# Altium footprint library FP-SMD-Passive.PcbLib: 73 footprints (part 3 of 5)
Each footprint in its own frame and in the unit in brackets; x right, y up, seen from the top. Pads: shape width x height; smd on the part's side, far side on the other; paste and mask are expansions set on the pad; w line width, h text height; cw(c..) or ccw(c..) is an arc to the next point about the centre after c.
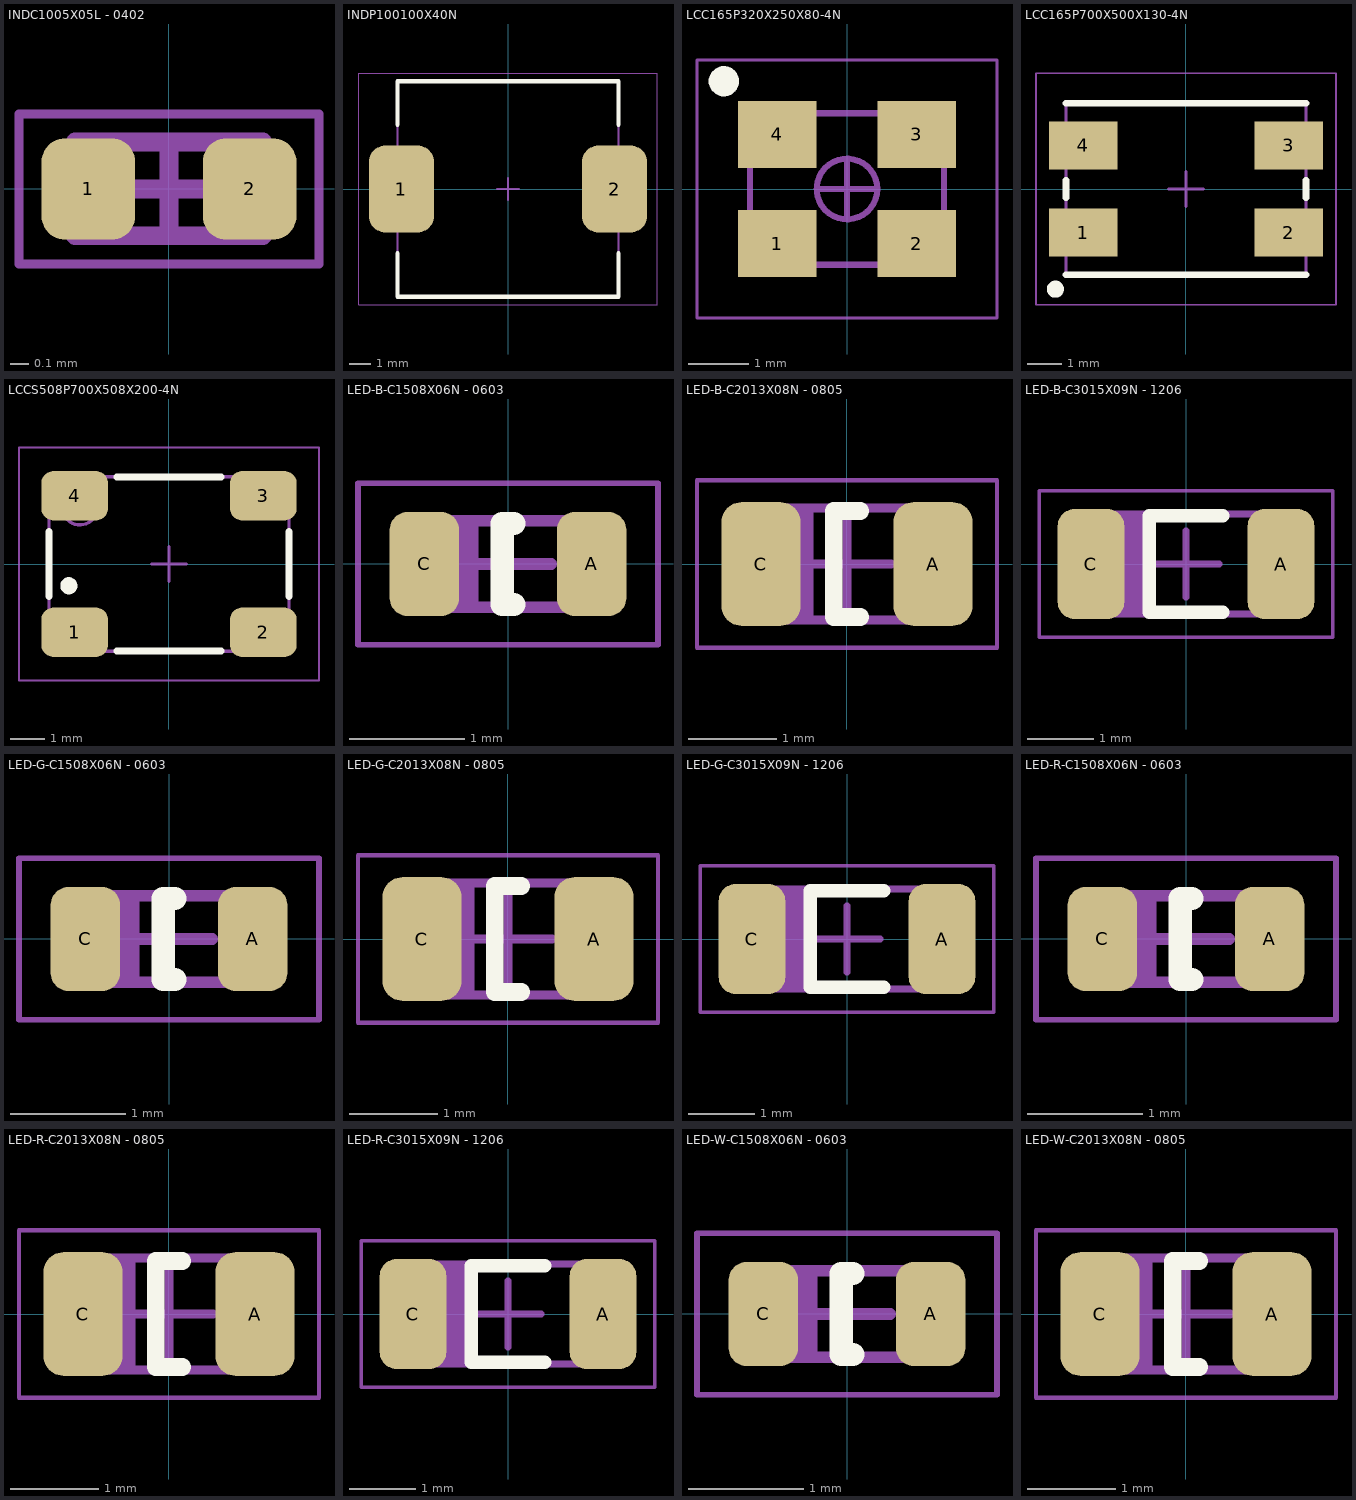
[diagram p2: the footprints below, top view; thin cyan lines are the x and y axes]

## INDC1005X05L - 0402 [mm] "Chip Inductor, 2-Leads, Body 1/00x0/50mm, IPC High Density"
height 0.5
pads (2):
  rrect50% 0.5x0.54 smd: 1(-0.43,0) 2(0.43,0)
Top Courtyard:
  lines w0.05: -0.8,-0.4 0.8,-0.4 0.8,0.4 -0.8,0.4 -0.8,-0.4
  lines w0.1: -0.25,0 0.25,0 ; 0,-0.25 0,0.25
Top Assembly:
  lines w0.1: -0.5,-0.25 0.5,-0.25 0.5,0.25 -0.5,0.25 -0.5,-0.25
  text "'.Designator'" at 0.1,0.3 h0.6
3D body "INDC1005X05L.step": height 0.5, standoff 0, extent -0.5,-0.25 0.5,0.25

## INDP100100X40N [mm] "Precision Wire Wound Inductor, 2-Leads, Body 10/00x10/00mm, IPC Medium Density"
height 4
pads (2):
  rrect50% 3x4 smd: 1(-4.9,0) 2(4.9,0)
Top Overlay:
  lines w0.2: -5.08,-2.95 -5.08,-4.953 5.08,-4.953 5.08,-2.95 ; -5.08,2.95 -5.08,4.953 5.08,4.953 5.08,2.95
Top Courtyard:
  lines w0.05: -6.875,-5.334 6.875,-5.334 6.875,5.334 -6.875,5.334 -6.875,-5.334
  lines w0.1: -0.5,0 0.5,0 ; 0,-0.5 0,0.5
Top Assembly:
  lines w0.1: -5.08,-4.953 5.08,-4.953 5.08,4.953 -5.08,4.953 -5.08,-4.953
  text "'.Designator'" at 0.254,0.762 h1.52
3D body "CDRH104R.STEP": height 3.85, standoff 0.05, extent -5.05,-4.95 5.05,4.95

## LCC165P320X250X80-4N [mm] "LCC, 4-Pins, Body 3/20x2/50mmx0/80mm, Pitch 1/65mm, IPC Medium Density"
height 0.8
pads (4):
  rect 1.3x1.1 smd: 1(-1.15,-0.9) 2(1.15,-0.9) 3(1.15,0.9) 4(-1.15,0.9)
Top Overlay:
  circle w0.25: c-2.032,1.778 r0.125
Top Courtyard:
  lines w0.05: -2.475,-2.125 -2.475,2.125 2.475,2.125 2.475,-2.125 -2.475,-2.125
  lines w0.1: -0.5,0 0.5,0 ; 0,-0.5 0,0.5
Top Assembly:
  circle w0.1: c0,0 r0.5
  lines w0.1: -1.6,1.138 -1.6,-1.25 1.6,-1.25 1.6,1.25 -1.488,1.25
  text "'.Designator'" at 0.254,0.762 h1.52
3D body "3225 SMD Crystal Oscillator.STEP": height 0.7, standoff 0, extent -1.6,-1.25 1.6,1.25

## LCC165P700X500X130-4N [mm] "LCC, 4-Pins, Body 7/00x5/00mmx1/30mm, Pitch 2/54mm, IPC Medium Density"
height 1.3
pads (4):
  rect 2x1.4 smd: 1(-3,-1.27) 2(3,-1.27) 3(3,1.27) 4(-3,1.27)
Top Overlay:
  lines w0.2: -3.5,-2.5 3.5,-2.5 ; -3.5,-0.254 -3.5,0.254 ; -3.5,2.5 3.5,2.5 ; 3.5,-0.254 3.5,0.254
  lines w0.25: -3.687,-2.9 ccw(c-3.81,-2.921) -3.685,-2.921
Top Courtyard:
  lines w0.05: -4.375,-3.375 -4.375,3.375 4.375,3.375 4.375,-3.375 -4.375,-3.375
  lines w0.1: -0.5,0 0.5,0 ; 0,-0.5 0,0.5
Top Assembly:
  circle w0.1: c-3,-1.27 r0.5
  lines w0.1: -3.5,-2.5 -3.5,2.5 3.5,2.5 3.5,-2.5 -3.5,-2.5
  text "'.Designator'" at 0.254,0.762 h1.52
3D body "ECS-96SMF.STEP": height 1.55, standoff 0.05, extent -3.5,-2.5 3.5,2.5

## LCCS508P700X508X200-4N [mm] "LCC, 4-Pins, Body 7/00x5/08mmx2/00mm, Pitch 5/08mm, IPC Medium Density"
height 2
pads (4):
  rrect50% 1.95x1.45 smd: 1(-2.75,-1.99) 2(2.75,-1.99) 3(2.75,1.99) 4(-2.75,1.99)
Top Overlay:
  circle w0.25: c-2.921,-0.635 r0.125
  lines w0.2: -3.5,-0.952 -3.5,0.953 ; -1.524,-2.54 1.524,-2.54 ; -1.524,2.54 1.524,2.54 ; 3.5,-0.952 3.5,0.953
Top Courtyard:
  lines w0.05: -4.375,-3.4 4.375,-3.4 4.375,3.4 -4.375,3.4 -4.375,-3.4
  lines w0.1: -0.5,0 0.5,0 ; 0,-0.5 0,0.5
Top Assembly:
  circle w0.1: c-2.6,1.64 r0.5
  lines w0.1: -3.5,-2.54 3.5,-2.54 3.5,2.54 -3.5,2.54 -3.5,-2.54
  text "'.Designator'" at 0.254,0.762 h1.52
3D body "ECS-96SMF.STEP": height 1.55, standoff 0.05, extent -3.5,-2.5 3.5,2.5

## LED-B-C1508X06N - 0603 [mm] "Chip LED, 2-Leads, Body 1/50x0/75mm, IPC Medium Density"
height 0.65
pads (2):
  rrect50% 0.6x0.9 smd: A(0.725,0) C(-0.725,0)
Top Overlay:
  lines w0.2: 0.05,-0.35 -0.05,-0.35 -0.05,0.35 0.05,0.35
Top Courtyard:
  lines w0.05: -1.3,-0.7 -1.3,0.7 1.3,0.7 1.3,-0.7 -1.3,-0.7
  lines w0.1: -0.375,0 0.375,0 ; 0,-0.375 0,0.375
Top Assembly:
  rectangle: -0.75,-0.381 -0.254,0.375
  lines w0.1: -0.75,-0.375 -0.75,0.375 0.75,0.375 0.75,-0.375 -0.75,-0.375
  text "'.Designator'" at 0.12,0.353 h0.7
3D body "LED SMD 0603 - B- R.STEP": height 0.6, standoff 0, extent -0.8,-0.4 0.8,0.4

## LED-B-C2013X08N - 0805 [mm] "Chip LED, 2-Leads, Body 2/00x1/27mm, IPC Medium Density"
height 0.85
pads (2):
  rrect50% 0.9x1.4 smd: A(0.975,0) C(-0.975,0)
Top Overlay:
  lines w0.2: 0.15,-0.6 -0.15,-0.6 -0.15,0.6 0.15,0.6
Top Courtyard:
  lines w0.05: -1.7,-0.95 1.7,-0.95 1.7,0.95 -1.7,0.95 -1.7,-0.95
  lines w0.1: -0.5,0 0.5,0 ; 0,-0.5 0,0.5
Top Assembly:
  rectangle: -1,-0.635 -0.381,0.635
  lines w0.1: -1,-0.635 1,-0.635 1,0.635 -1,0.635 -1,-0.635
  text "'.Designator'" at 0.12,0.353 h0.7
3D body "LED SMD 0805 - B.STEP": height 1, standoff 0, extent -1,-0.625 1,0.625

## LED-B-C3015X09N - 1206 [mm] "Chip LED, 2-Leads, Body 3/00x1/50mm, IPC Medium Density"
height 0.9
pads (2):
  rrect50% 1x1.65 smd: A(1.425,0) C(-1.425,0)
Top Overlay:
  lines w0.2: 0.55,-0.725 -0.55,-0.725 -0.55,0.725 0.55,0.725
Top Courtyard:
  lines w0.05: -2.2,-1.1 -2.2,1.1 2.2,1.1 2.2,-1.1 -2.2,-1.1
  lines w0.1: -0.5,0 0.5,0 ; 0,-0.5 0,0.5
Top Assembly:
  rectangle: -1.5,-0.762 -0.635,0.75
  lines w0.1: -1.5,-0.75 -1.5,0.75 1.5,0.75 1.5,-0.75 -1.5,-0.75
  text "'.Designator'" at 0.12,0.353 h0.7
3D body "LED SMD 1206 - B.STEP": height 1.1, standoff 0, extent -1.6,-0.8 1.6,0.8

## LED-G-C1508X06N - 0603 [mm] "Chip LED, 2-Leads, Body 1/50x0/75mm, IPC Medium Density"
height 0.65
pads (2):
  rrect50% 0.6x0.9 smd: A(0.725,0) C(-0.725,0)
Top Overlay:
  lines w0.2: 0.05,-0.35 -0.05,-0.35 -0.05,0.35 0.05,0.35
Top Courtyard:
  lines w0.05: -1.3,-0.7 -1.3,0.7 1.3,0.7 1.3,-0.7 -1.3,-0.7
  lines w0.1: -0.375,0 0.375,0 ; 0,-0.375 0,0.375
Top Assembly:
  rectangle: -0.75,-0.381 -0.254,0.375
  lines w0.1: -0.75,-0.375 -0.75,0.375 0.75,0.375 0.75,-0.375 -0.75,-0.375
  text "'.Designator'" at 0.12,0.353 h0.7
3D body "LED SMD 0603 - G- R.STEP": height 0.6, standoff 0, extent -0.8,-0.4 0.8,0.4

## LED-G-C2013X08N - 0805 [mm] "Chip LED, 2-Leads, Body 2/00x1/27mm, IPC Medium Density"
height 0.85
pads (2):
  rrect50% 0.9x1.4 smd: A(0.975,0) C(-0.975,0)
Top Overlay:
  lines w0.2: 0.15,-0.6 -0.15,-0.6 -0.15,0.6 0.15,0.6
Top Courtyard:
  lines w0.05: -1.7,-0.95 1.7,-0.95 1.7,0.95 -1.7,0.95 -1.7,-0.95
  lines w0.1: -0.5,0 0.5,0 ; 0,-0.5 0,0.5
Top Assembly:
  rectangle: -1,-0.635 -0.381,0.635
  lines w0.1: -1,-0.635 1,-0.635 1,0.635 -1,0.635 -1,-0.635
  text "'.Designator'" at 0.12,0.353 h0.7
3D body "LED SMD 0805 - G.STEP": height 1, standoff 0, extent -1,-0.625 1,0.625

## LED-G-C3015X09N - 1206 [mm] "Chip LED, 2-Leads, Body 3/00x1/50mm, IPC Medium Density"
height 0.9
pads (2):
  rrect50% 1x1.65 smd: A(1.425,0) C(-1.425,0)
Top Overlay:
  lines w0.2: 0.55,-0.725 -0.55,-0.725 -0.55,0.725 0.55,0.725
Top Courtyard:
  lines w0.05: -2.2,-1.1 2.2,-1.1 2.2,1.1 -2.2,1.1 -2.2,-1.1
  lines w0.1: -0.5,0 0.5,0 ; 0,-0.5 0,0.5
Top Assembly:
  rectangle: -1.5,-0.762 -0.635,0.75
  lines w0.1: -1.5,-0.75 1.5,-0.75 1.5,0.75 -1.5,0.75 -1.5,-0.75
  text "'.Designator'" at 0.12,0.353 h0.7
3D body "LED SMD 1206 - G.STEP": height 1.1, standoff 0, extent -1.6,-0.8 1.6,0.8

## LED-R-C1508X06N - 0603 [mm] "Chip LED, 2-Leads, Body 1/50x0/75mm, IPC Medium Density"
height 0.65
pads (2):
  rrect50% 0.6x0.9 smd: A(0.725,0) C(-0.725,0)
Top Overlay:
  lines w0.2: 0.05,-0.35 -0.05,-0.35 -0.05,0.35 0.05,0.35
Top Courtyard:
  lines w0.05: -1.3,-0.7 1.3,-0.7 1.3,0.7 -1.3,0.7 -1.3,-0.7
  lines w0.1: -0.375,0 0.375,0 ; 0,-0.375 0,0.375
Top Assembly:
  rectangle: -0.75,-0.381 -0.254,0.375
  lines w0.1: -0.75,-0.375 0.75,-0.375 0.75,0.375 -0.75,0.375 -0.75,-0.375
  text "'.Designator'" at 0.12,0.353 h0.7
3D body "LED SMD 0603 - R.STEP": height 0.6, standoff 0, extent -0.8,-0.4 0.8,0.4

## LED-R-C2013X08N - 0805 [mm] "Chip LED, 2-Leads, Body 2/00x1/27mm, IPC Medium Density"
height 0.85
pads (2):
  rrect50% 0.9x1.4 smd: A(0.975,0) C(-0.975,0)
Top Overlay:
  lines w0.2: 0.15,-0.6 -0.15,-0.6 -0.15,0.6 0.15,0.6
Top Courtyard:
  lines w0.05: -1.7,-0.95 -1.7,0.95 1.7,0.95 1.7,-0.95 -1.7,-0.95
  lines w0.1: -0.5,0 0.5,0 ; 0,-0.5 0,0.5
Top Assembly:
  rectangle: -1,-0.635 -0.381,0.635
  lines w0.1: -1,-0.635 -1,0.635 1,0.635 1,-0.635 -1,-0.635
  text "'.Designator'" at 0.12,0.353 h0.7
3D body "LED SMD 0805 - R.STEP": height 1, standoff 0, extent -1,-0.625 1,0.625

## LED-R-C3015X09N - 1206 [mm] "Chip LED, 2-Leads, Body 3/00x1/50mm, IPC Medium Density"
height 0.9
pads (2):
  rrect50% 1x1.65 smd: A(1.425,0) C(-1.425,0)
Top Overlay:
  lines w0.2: 0.55,-0.725 -0.55,-0.725 -0.55,0.725 0.55,0.725
Top Courtyard:
  lines w0.05: -2.2,-1.1 2.2,-1.1 2.2,1.1 -2.2,1.1 -2.2,-1.1
  lines w0.1: -0.5,0 0.5,0 ; 0,-0.5 0,0.5
Top Assembly:
  rectangle: -1.5,-0.762 -0.635,0.75
  lines w0.1: -1.5,-0.75 1.5,-0.75 1.5,0.75 -1.5,0.75 -1.5,-0.75
  text "'.Designator'" at 0.12,0.353 h0.7
3D body "LED SMD 1206 - R.STEP": height 1.1, standoff 0, extent -1.6,-0.8 1.6,0.8
3D body "LED SMD 1206 - W.STEP": height 1.1, standoff 0, extent -1.6,-0.8 1.6,0.8

## LED-W-C1508X06N - 0603 [mm] "Chip LED, 2-Leads, Body 1/50x0/75mm, IPC Medium Density"
height 0.65
pads (2):
  rrect50% 0.6x0.9 smd: A(0.725,0) C(-0.725,0)
Top Overlay:
  lines w0.2: 0.05,-0.35 -0.05,-0.35 -0.05,0.35 0.05,0.35
Top Courtyard:
  lines w0.05: -1.3,-0.7 1.3,-0.7 1.3,0.7 -1.3,0.7 -1.3,-0.7
  lines w0.1: -0.375,0 0.375,0 ; 0,-0.375 0,0.375
Top Assembly:
  rectangle: -0.75,-0.381 -0.254,0.375
  lines w0.1: -0.75,-0.375 0.75,-0.375 0.75,0.375 -0.75,0.375 -0.75,-0.375
  text "'.Designator'" at 0.12,0.353 h0.7
3D body "LED SMD 0603 - W.STEP": height 0.6, standoff 0, extent -0.8,-0.4 0.8,0.4

## LED-W-C2013X08N - 0805 [mm] "Chip LED, 2-Leads, Body 2/00x1/27mm, IPC Medium Density"
height 0.85
pads (2):
  rrect50% 0.9x1.4 smd: A(0.975,0) C(-0.975,0)
Top Overlay:
  lines w0.2: 0.15,-0.6 -0.15,-0.6 -0.15,0.6 0.15,0.6
Top Courtyard:
  lines w0.05: -1.7,-0.95 -1.7,0.95 1.7,0.95 1.7,-0.95 -1.7,-0.95
  lines w0.1: -0.5,0 0.5,0 ; 0,-0.5 0,0.5
Top Assembly:
  rectangle: -1,-0.635 -0.381,0.635
  lines w0.1: -1,-0.635 -1,0.635 1,0.635 1,-0.635 -1,-0.635
  text "'.Designator'" at 0.12,0.353 h0.7
3D body "LED SMD 0805 - W.STEP": height 1, standoff 0, extent -1,-0.625 1,0.625